# EAGLE library part PINHD1X06 (library lib_stankus)
Pin header 1x06
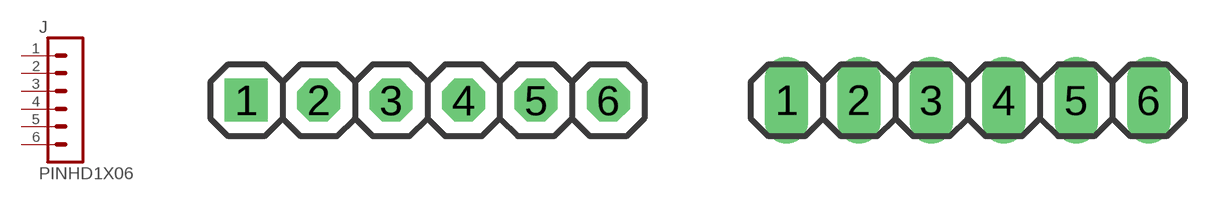
[diagram p34: symbol with the pads of PINHD1X06; footprints PINHD1X06, PINHD1X06_BIG]

Designator prefix J

## PINHD1X06-STRT  [PINHD1X06]
1  1  pas
2  2  pas
3  3  pas
4  4  pas
5  5  pas
6  6  pas

## PINHD1X06-STRT_BIG  [PINHD1X06_BIG]
Pads as for PINHD1X06

## PINHD1X06-ANGLE  [PINHD1X06A]
Pads as for PINHD1X06

## Footprint PINHD1X06 (pad centres in mm)
PIN HEADER 1x06
drill 1 square: 1 -6.35,0
drill 1 octagon: 2 -3.81,0; 3 -1.27,0; 4 1.27,0; 5 3.81,0; 6 6.35,0

## Footprint PINHD1X06_BIG (pad centres in mm)
PIN HEADER 1x06, 60 MIL PADS
drill 1 pad 1.524 long: 1 -6.35,0; 2 -3.81,0; 3 -1.27,0; 4 1.27,0; 5 3.81,0; 6 6.35,0

## Footprint PINHD1X06A (pad centres in mm)
PIN HEADER 1x06 ANGLED
drill 1 square: 1 -6.35,0
drill 1 octagon: 2 -3.81,0; 3 -1.27,0; 4 1.27,0; 5 3.81,0; 6 6.35,0